# EAGLE library part ADP-2-9 (library minicircuits1)
Power Splitter/Combiner 2 Way-0° 50 R Internal load dissipation: 0.125 Watt Matched power rating: 0.5 Watt Non-hermetic Pins 2 & 5 must be connected together on PC board ADP-2-9 2 Way-0° Frequency MHz Isolation, dB Insertion Loss, dB Above 3.0dB Phase Unbalance Degrees Amplitude Unbalance, dB Power Input, W fL - fU L Typ. Min. M Typ. Min. U Typ. Min. L Typ. Max. M Typ. Max. U Typ. Max. L Max. M Max. U Max. L Max. M Max. U Max. as Combiner Max. as Splitter Max. 200-900 27 20 0.40 0.80 2.00 0.30 0.50 L=low range(fL to 10fL) M=mid range(10fL to fU/2) U=upper range(fU/2 to fU) FREQ (MHz) Insertion Loss Amplitude Unbalance (dB) Isolation Phase Unbalance (Degrees) FREQ (MHz) VSWR S VSWR 1 VSWR 2 (dB) S-1 (dB) S-2 (dB) 1-2 200.00 3.41 3.47 0.060 24.51 0.17 200.00 1.33 1.45 1.44 250.00 3.39 3.45 0.060 25.90 0.15 250.00 1.32 1.40 1.40 300.00 3.40 3.46 0.060 26.80 0.16 300.00 1.32 1.37 1.37 350.00 3.38 3.43 0.060 27.21 0.17 350.00 1.32 1.36 1.36 400.00 3.40 3.45 0.060 27.36 0.16 400.00 1.33 1.35 1.35 450.00 3.38 3.43 0.050 27.25 0.17 450.00 1.33 1.34 1.34 505.00 3.39 3.44 0.050 27.04 0.18 505.00 1.34 1.34 1.33 585.00 3.40 3.45 0.050 26.73 0.23 585.00 1.34 1.33 1.32 625.00 3.40 3.45 0.050 26.56 0.20 625.00 1.33 1.33 1.32 705.00 3.41 3.44 0.030 26.29 0.24 705.00 1.31 1.31 1.30 745.00 3.39 3.43 0.040 26.15 0.23 745.00 1.30 1.30 1.29 785.00 3.41 3.44 0.030 26.03 0.23 785.00 1.28 1.29 1.28 825.00 3.40 3.43 0.030 25.85 0.26 825.00 1.25 1.28 1.27 880.00 3.42 3.44 0.020 25.46 0.22 880.00 1.22 1.25 1.24 920.00 3.42 3.43 0.010 25.01 0.21 920.00 1.19 1.23 1.22
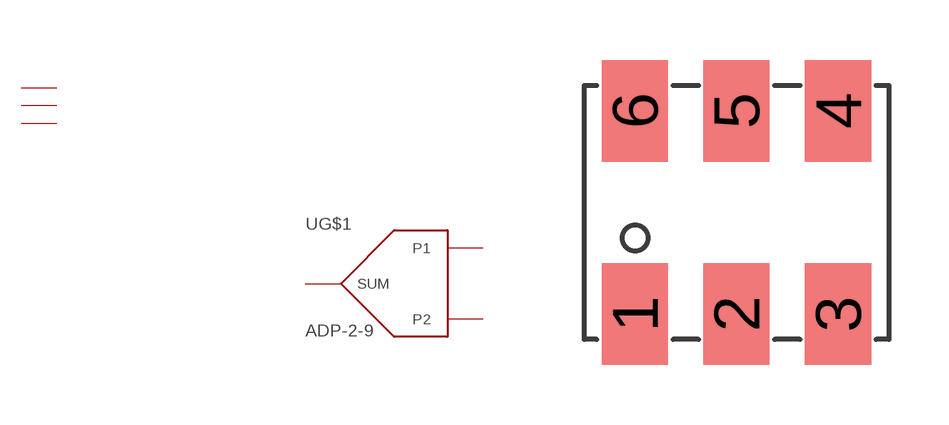
[diagram p16: symbol with the pads of CD636; footprint CD636]

Designator prefix -; gates G$1=POWER_SPLITTER-2W G$2=GND G$3=NC G$4=NC

## ADP-2-9  [CD636]
1  G$1:SUM
2  G$4:NC  nc
3  G$1:P1
4  G$1:P2
5  G$3:NC  nc
6  G$2:GND  pwr

## Footprint CD636 (pad centres in mm)
CD636 http://www.minicircuits.com/cgi-bin/inquery.cgi?querystring=CD636&searchtype=case&x=21&y=7
smd 1.651 x 2.54: 1 0,0; 2 2.54,0; 3 5.08,0; 4 5.08,5.08; 5 2.54,5.08; 6 0,5.08